# EAGLE library part EC7BW-110S12 (library EC7BW-110S12)
Isolated DC/DC Converters DC-DC Converter, 20 Watt, 4:1 Input Range, for Railway System, 43-160VDC Input, 12VDC Output, 90% Efficiency Source: Datasheet <https://componentsearchengine.com/Datasheets/1/EC7BW-110S12.pdf>
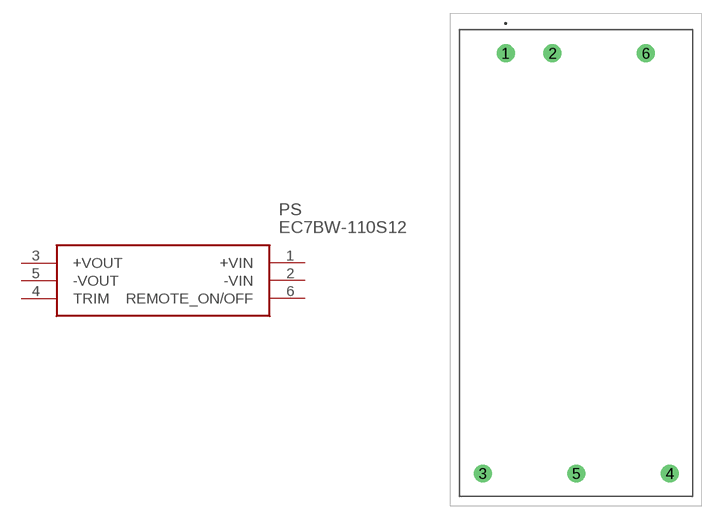
[diagram p0: symbol with the pads of EC7BW110S12; footprint EC7BW110S12]

Designator prefix PS

## EC7BW-110S12 (Description: Isolated DC/DC Converters DC-DC Converter, 20 Watt, 4:1 Input Range, for Railway System, 43-160VDC Input, 12VDC Output, 90% Efficiency; Height: 10.7mm; Manufacturer_Name: Cincon; Manufacturer_Part_Number: EC7BW-110S12; Mouser_Part_Number: 418-EC7BW-110S12; Mouser_Price-Stock: https://www.mouser.com/Search/Refine.aspx?Keyword=418-EC7BW-110S12)  [EC7BW110S12]
1  +VIN
2  -VIN
3  +VOUT
4  TRIM
5  -VOUT
6  REMOTE_ON/OFF

## Footprint EC7BW110S12 (pad centres in mm)
EC7BW-110S12-1
drill 1.3 pad 1.95: 1 0,0; 2 5.08,0; 3 -2.48,-45.72; 4 17.84,-45.72; 5 7.68,-45.72; 6 15.24,0